# Altium schematic symbol library SolarPanelZPlus.SCHLIB: 7 symbols
Pins are listed as number, name and electrical type; pins without a type are passive.

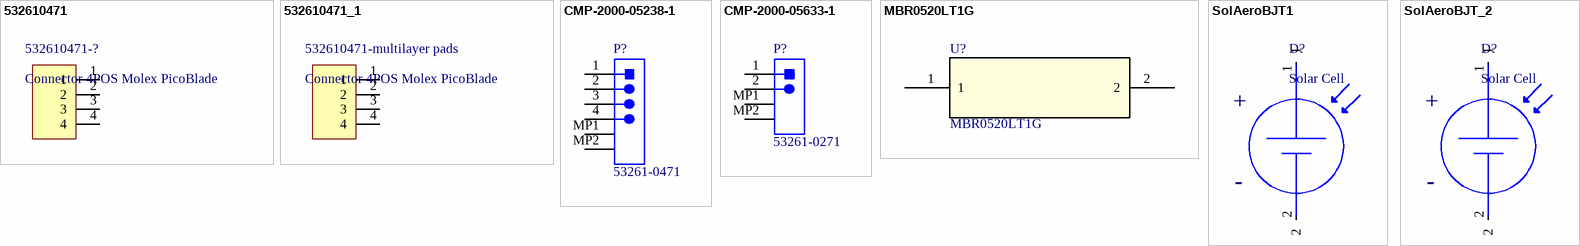
[diagram p0: symbols 532610471 to SolAeroBJT_2]

## 532610471
designator 532610471-?, comment Connector 4POS Molex PicoBlade
footprint 532610471 (Connector 4POS Molex PicoBlade)
pins: 1, 2, 3, 4

## 532610471_1
designator 532610471-multilayer pads, comment Connector 4POS Molex PicoBlade
footprint 532610471 - multilayer pads (Connector 4POS Molex PicoBlade)
pins: 1, 2, 3, 4

## CMP-2000-05238-1
designator P?, comment 53261-0471
Male Header, Pitch 1.25 mm, 1 x 4 Position, Height 3.4 mm, -40 to 85 degC, RoHS, Tape and Reel; Current Rating: 1A; Brand: Molex; Number of Positions / Contacts: 4; Pitch: 1.25mm; Voltage Rating: 125V; Mounting Angle: Right; Manufacturer URL: http://www.molex.com/; Factory Pack Quantity: 1000; Housing Material: Thermoplastic; Datasheet URL: http://www.molex.com/pdm_docs/sd/532610471_sd.pdf; Tradename: PicoBlade; Product Type: Headers; Contact Plating: Tin; Contact Material: PhosphorBronze; Package Description: 1.25mm Pitch PicoBlade(TM) Header, Surface Mount, Right Angle, Lead-Free, 4 Circuits; Mounting Style: SMD/SMT; Manufacturer: Molex; Series: 53261; Packaging: Reel; Number of Rows: 1; RoHS: Details; Number of Positions: 4; Product Category: Headers&WireHousings; Datasheet Version: Rev. G, 01/2012; Type: Shrouded; Termination Style: SMD
footprint MOLEX-53261-0471_V (SMD, 4-Leads, Body 10.15x5.2mm, Pitch 1.25mm)
pins: 1, 2, 3, 4, MP1, MP2

## CMP-2000-05633-1
designator P?, comment 53261-0271
PicoBlade(TM) Header, Right Angle, -40 to 85 degC, 2-Pin SMD, RoHS, Tape and Reel; Current - Max: 1A; Brand: Molex; Voltage Rating: 125V; Number of Positions: 2; Pitch: 1.25mm; Package Version: Rev. H, 11/2014; Factory Pack Quantity: 1000; Datasheet URL: http://www.molex.com/webdocs/datasheets/pdf/en-us/0532610271_PCB_HEADERS.pdf; Datasheet Version: 03/2016; Housing Material: Thermoplastic; RoHS: Details; Product Type: Headers; Number of Rows: 1; Termination Style: SMD; Mounting Technology: SurfaceMount; Number of Positions / Contacts: 2; Package URL: http://www.molex.com/pdm_docs/sd/532610271_sd.pdf; Mounting Angle: Right; Mounting Style: SMD/SMT; Manufacturer: Molex; Product Category: 1.25mmConnectors; Tradename: PicoBlade; Voltage - Max: 125V; Manufacturer URL: http://www.molex.com/; Series: 53261; Package Description: 2-Leads Header, Pitch 1.25 mm, Mated Height 3.4 mm; Package Reference: 53261-0271; Current Rating: 1A; Contact Plating: Tin; Contact Material: PhosphorBronze; Type: Shrouded; Packaging: Reel
footprint 532610471 (Connector 4POS Molex PicoBlade)
pins: 1, 2, MP1, MP2

## MBR0520LT1G
designator U?
Imported; Vendor: ON Semiconductor; C: Copyright (C) 2015 Accelerated Designs. All rights reserved; Manufacturer_Part_Number: MBR0520LT1G; Copyright: Copyright (C) 2015 Accelerated Designs. All rights reserved; Value: Value; Type: Type; RefDes: RefDes
footprint SOD-123 (SODFL, 2-Leads, Body 1.60x3.75mm, IPC Medium Density)
pins: 1, 2

## SolAeroBJT1
designator D?, comment Solar Cell
SolAero BJT Space Solar Cell
footprint SolAeroBJT (Solar Cell)
pins: 1 (power) "Positive pin", 2 "Positive pin"
text: +; -

## SolAeroBJT_2
designator D?, comment Solar Cell
SolAero BJT Space Solar Cell
footprint SolAeroBJTPos2 (Solar Cell)
pins: 1 (power) "Positive pin", 2 "Positive pin"
text: +; -